# Altium footprint library DX_test_PcbLib1.PcbLib: 36 footprints (part 1 of 3)
Each footprint in its own frame and in the unit in brackets; x right, y up, seen from the top. Pads: shape width x height; smd on the part's side, far side on the other; paste and mask are expansions set on the pad; w line width, h text height; cw(c..) or ccw(c..) is an arc to the next point about the centre after c.
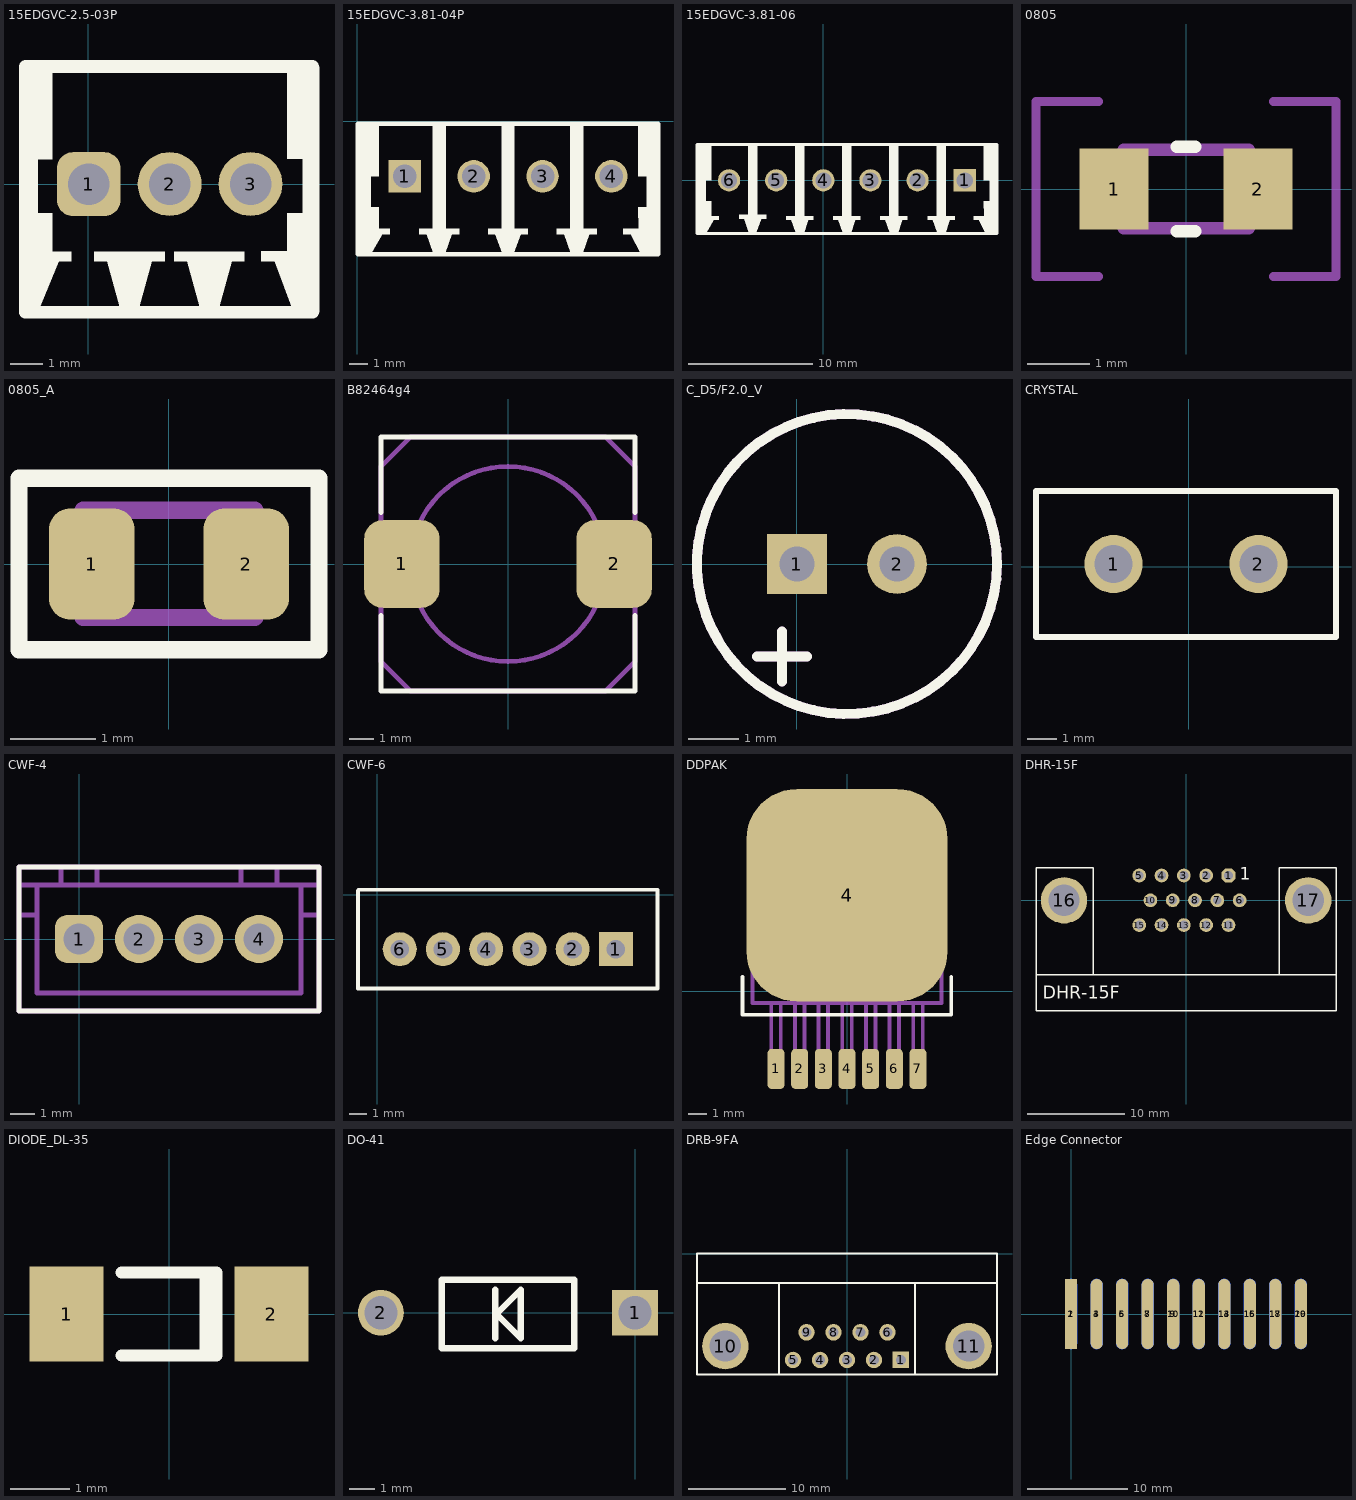
[diagram p0: the footprints below, top view; thin cyan lines are the x and y axes]

## 15EDGVC-2.5-03P [mm] "15EDGVC-2.5-03P"
pads (3):
  rrect50% 2x2 hole 1.3: 1(0.01,0)
  round 2 hole 1.3: 2(2.545,0) 3(5.08,0)
Top Overlay:
  region: 6.233,3.683 6.233,0.787 6.715,0.787 6.716,-0.914 6.233,-0.914 6.233,-2.108 5.415,-2.108 5.415,-2.413 5.84,-2.413 6.437,-4.013 7.224,-4.013 7.224,3.683
  region: -1.133,3.708 -1.133,0.784 -1.583,0.784 -1.583,-0.916 -1.133,-0.916 -1.133,-2.116 -0.533,-2.116 -0.533,-2.416 -0.933,-2.416 -1.59,-4.013 -2.174,-4.013 -2.174,3.708
  region: 3.49,-3.835 3.09,-2.413 2.69,-2.413 2.69,-2.113 4.89,-2.113 4.89,-2.413 4.49,-2.413 4.1,-3.835
  region: 0.976,-3.835 0.585,-2.413 0.185,-2.413 0.185,-2.113 2.385,-2.113 2.385,-2.413 1.985,-2.413 1.585,-3.835
  lines w0.4: -1.971,-4.016 7.021,-4.016 ; -1.971,3.683 7.021,3.683
3D body: height 10.2, standoff -3.4, extent -2.175,-4.214 7.225,3.886

## 15EDGVC-3.81-04P [mm] "15EDGVC-3.81-04P"
pads (4):
  rect 1.8x1.8 hole 1.3: 1(2.62,-3.06)
  round 1.8 hole 1.3: 2(6.43,-3.06) 3(10.24,-3.06) 4(14.05,-3.06)
Top Overlay:
  region: 4.23,-7.36 3.83,-6.26 3.43,-6.26 3.43,-5.96 5.63,-5.96 5.63,-6.26 5.23,-6.26 4.83,-7.36
  region: 8.03,-7.36 7.63,-6.26 7.23,-6.26 7.23,-5.96 9.43,-5.96 9.43,-6.26 9.03,-6.26 8.63,-7.36
  region: 11.83,-7.36 11.43,-6.26 11.03,-6.26 11.03,-5.96 13.23,-5.96 13.23,-6.26 12.83,-6.26 12.43,-7.36
  region: 4.18,-0.26 4.18,-5.96 4.88,-5.96 4.88,-0.26
  region: 7.98,-0.26 7.98,-5.96 8.68,-5.96 8.68,-0.26
  region: 11.78,-0.26 11.78,-5.96 12.48,-5.96 12.48,-0.26
  region: 1.18,-0.26 1.18,-3.06 0.73,-3.06 0.73,-4.76 1.18,-4.76 1.18,-5.96 1.78,-5.96 1.78,-6.26 1.38,-6.26 0.73,-7.36 0.155,-7.36 0.155,-0.26
  region: 15.53,-0.26 15.53,-3.06 16.005,-3.06 16.005,-4.76 15.53,-4.76 15.555,-5.96 14.705,-5.96 14.705,-6.26 15.13,-6.26 15.705,-7.36 16.505,-7.36 16.505,-0.26
  lines w0.254: 0.03,-7.36 0.03,-0.16 16.63,-0.16 16.63,-7.36 0.03,-7.36
3D body: height 9.2, standoff -3.4, extent -0.015,-7.4 16.615,-0.15

## 15EDGVC-3.81-06 [mm] "15EDGVC-3.81-06"
pads (6):
  rect 1.8x1.8 hole 1.3: 1(11.43,0)
  round 1.8 hole 1.3: 2(7.62,0) 3(3.81,0) 4(0,0) 5(-3.81,0) 6(-7.62,0)
Top Overlay:
  region: 9.19,2.8 9.19,-2.9 9.89,-2.9 9.89,2.8
  region: 9.24,-4.3 8.84,-3.2 8.44,-3.2 8.44,-2.9 10.64,-2.9 10.64,-3.2 10.24,-3.2 9.84,-4.3
  region: -2.2,-4.3 -2.6,-3.2 -3,-3.2 -3,-2.9 -0.8,-2.9 -0.8,-3.2 -1.2,-3.2 -1.6,-4.3
  region: 1.6,-4.3 1.2,-3.2 0.8,-3.2 0.8,-2.9 3,-2.9 3,-3.2 2.6,-3.2 2.2,-4.3
  region: 5.4,-4.3 5,-3.2 4.6,-3.2 4.6,-2.9 6.8,-2.9 6.8,-3.2 6.4,-3.2 6,-4.3
  region: -2.25,2.8 -2.25,-2.9 -1.55,-2.9 -1.55,2.8
  region: 1.55,2.8 1.55,-2.9 2.25,-2.9 2.25,2.8
  region: 5.35,2.8 5.35,-2.9 6.05,-2.9 6.05,2.8
  region: -9.06,2.8 -9.06,0 -9.51,0 -9.51,-1.7 -9.06,-1.7 -9.06,-2.9 -8.46,-2.9 -8.46,-3.2 -8.86,-3.2 -9.51,-4.3 -10.085,-4.3 -10.085,2.8
  region: 12.975,2.8 12.975,0 13.45,0 13.45,-1.7 12.975,-1.7 13,-2.9 12.15,-2.9 12.15,-3.2 12.575,-3.2 13.15,-4.3 13.95,-4.3 13.95,2.8
  region: -6.06,2.9 -6.06,-2.8 -5.36,-2.8 -5.36,2.9
  region: -6.01,-4.2 -6.41,-3.1 -6.81,-3.1 -6.81,-2.8 -4.61,-2.8 -4.61,-3.1 -5.01,-3.1 -5.41,-4.2
  lines w0.254: -10.21,-4.3 -10.21,2.9 ; -10.16,-4.3 14.04,-4.3 14.04,2.9 -10.16,2.9
3D body: height 9.2, standoff -3.4, extent -10.22,-4.242 14.03,3.008

## 0805 [mm]
pads (2):
  rect 1.1x1.3 smd: 1(-1.15,0) 2(1.15,0)
Top Overlay:
  lines w0.2: -0.15,-0.675 0.15,-0.675 ; -0.15,0.675 0.15,0.675
Mechanical 1:
  lines w0.2: -1,-0.625 -1,0.627 1,0.627 1,-0.625 -1,-0.625
Mechanical 2:
  lines w0.15: -1.4,-1.4 -2.4,-1.4 -2.4,1.4 -1.4,1.4 ; 1.4,-1.4 2.4,-1.4 2.4,1.4 1.4,1.4
3D body: height 0.47, standoff 0, extent -1,-0.625 1,0.627

## 0805_A [mm]
pads (2):
  rrect50% 1x1.3 smd: 1(-0.9,0) 2(0.9,0)
Top Overlay:
  lines w0.2: -1.75,-1 -1.75,1 1.75,1 1.75,-1 -1.75,-1
Mechanical 1:
  lines w0.2: -1,-0.625 -1,0.627 1,0.627 1,-0.625 -1,-0.625
3D body: height 0.47, standoff 0, extent -1,-0.625 1,0.627

## B82464g4 [mm]
height 4.8
pads (2):
  rrect50% 3.1x3.6 smd: 1(-4.35,0) 2(4.35,0)
Top Overlay:
  lines w0.2: -5.2,-2.1 -5.2,-5.2 5.2,-5.2 5.2,-2.1 ; -5.2,2.1 -5.2,5.2 5.2,5.2 5.2,2.1
Mechanical 1:
  circle w0.2: c0,0 r4
  lines w0.2: -5.2,-4 -5.2,4 -4,5.2 4,5.2 5.2,4 5.2,-4 4,-5.2 -4,-5.2 -5.2,-4
3D body: height 4.81, standoff 0, extent -5.2,-5.2 5.2,5.2

## C_D5/F2.0_V [mm]
pads (2):
  rect 1.2x1.2 hole 0.7: 1(0,0)
  round 1.2 hole 0.7: 2(2,0)
Top Overlay:
  circle w0.2: c1,0 r3
  lines w0.2: -0.8,-1.85 0.2,-1.85 ; -0.3,-2.35 -0.3,-1.35
Mechanical 1:
  circle w0.2: c1,0 r3
  lines w0.2: -0.8,-1.85 0.2,-1.85 ; -0.3,-2.35 -0.3,-1.35
3D body: height 11.28, standoff -3.52, extent -1.525,-2.551 3.525,2.5

## CRYSTAL [mm] "Quarz_Crystal"
pads (2):
  round 2.01 hole 1.31: 1(-2.591,0.102) 2(2.409,0.102)
Top Overlay:
  lines w0.2: 5.084,2.622 5.084,-2.418 -5.266,-2.418 -5.266,2.624 5.084,2.624
3D body: height 13.46, standoff -2, extent -5.61,-2.285 5.563,2.387

## CWF-4 [mm]
pads (4):
  rrect50% 2x2 hole 1.3: 1(0,0)
  round 2 hole 1.3: 2(2.5,0) 3(5,0) 4(7.5,0)
Top Overlay:
  lines w0.2: -2.5,-3 -2.5,3 10,3 10,-3 -2.5,-3
Mechanical 1:
  lines w0.2: -2.5,1 -1.75,1 ; -2.5,2.25 -1.75,2.25 ; -0.75,2.25 -0.75,3 ; 0.75,2.25 0.75,3 ; 6.75,2.25 6.75,3 ; 8.25,2.25 8.25,3 ; 9.25,1 10,1 ; 10,2.25 9.25,2.25 ; -1.75,2.25 -1.75,-2.25 9.25,-2.25 9.25,2.25 ; -1.75,2.25 9.25,2.25 ; -2.5,-3 -2.5,0 -2.5,3 10,3 10,-3 -2.5,-3 ; -0.25,-0.25 -0.25,0.25 0.25,0.25 0.25,-0.25 -0.25,-0.25 ; 2.25,-0.25 2.25,0.25 2.75,0.25 2.75,-0.25 2.25,-0.25 ; 4.75,-0.25 4.75,0.25 5.25,0.25 5.25,-0.25 4.75,-0.25 ; 7.25,-0.25 7.25,0.25 7.75,0.25 7.75,-0.25 7.25,-0.25
3D body: height 7, standoff -3.5, extent -2.4,-3.55 10,2.2

## CWF-6 [mm] "Connector CWF-6"
pads (6):
  rect 2x2 hole 1.1: 1(14.01,-3.2)
  round 2 hole 1.1: 2(11.47,-3.2) 3(8.93,-3.2) 4(6.39,-3.2) 5(3.85,-3.2) 6(1.31,-3.2)
Top Overlay:
  lines w0.203: -1.143,0.3 16.485,0.3
  lines w0.25: -1.14,0.229 -1.14,-5.51 16.459,-5.51 16.459,0.279
3D body: height 7, standoff -3.5, extent -1.1,-5.475 16.4,0.275

## DDPAK [mm]
pads (8):
  rrect50% 0.91x2.16 smd: 1(-3.81,-4.16) 2(-2.54,-4.16) 3(-1.27,-4.16) 4(0,-4.16) 5(1.27,-4.16) 6(2.54,-4.16) 7(3.81,-4.16)
  rrect50% 10.8x11.41 smd: 4(0,5.16)
Top Overlay:
  lines w0.2: -5.61,0.782 -5.61,-1.25 5.59,-1.25 5.59,0.77
Mechanical 1:
  circle w0.2: c-3.825,0.7 r0.5
  lines w0.2: -4.064,-0.625 -4.064,-5.08 -3.556,-5.08 -3.556,-0.625 ; -2.794,-0.625 -2.794,-5.08 -2.286,-5.08 -2.286,-0.625 ; -1.524,-0.625 -1.524,-5.08 -1.016,-5.08 -1.016,-0.625 ; -0.254,-0.625 -0.254,-5.08 0.254,-5.08 0.254,-0.625 ; 1.016,-0.625 1.016,-5.08 1.524,-5.08 1.524,-0.625 ; 2.286,-0.625 2.286,-5.08 2.794,-5.08 2.794,-0.625 ; 3.556,-0.625 3.556,-5.08 4.064,-5.08 4.064,-0.625 ; -5.075,8.025 -5.075,8.625 -3.45,9.275 0,9.275 3.45,9.275 5.075,8.625 5.075,8.025 ; -5.075,8.025 5.075,8.025 ; -5.075,8.025 -5.075,-0.625 5.075,-0.625 5.075,8.025
3D body: height 4.78, standoff -0.02, extent -5,-5.142 5,10.528

## DHR-15F [mm] "DHR-15F"
pads (17):
  oct 1.408x1.408 hole 0.9: 1(4.329,2.54)
  round 1.408 hole 0.9: 2(2.043,2.54) 3(-0.243,2.54) 4(-2.529,2.54) 5(-4.815,2.54) 6(5.472,0) 7(3.186,0) 8(0.9,0) 9(-1.386,0) 10(-3.672,0) 11(4.329,-2.54) 12(2.043,-2.54) 13(-0.243,-2.54) 14(-2.529,-2.54) 15(-4.815,-2.54)
  round 4.76 hole 3.2: 16(-12.522,0) 17(12.497,0)
Top Overlay:
  lines w0.152: -15.392,-7.645 -15.392,3.353 -9.525,3.353 -9.525,-7.62 ; 9.525,-7.62 9.525,3.353 15.342,3.353 15.342,-11.294 -15.392,-11.294 -15.392,-7.62 15.316,-7.62
  text "1" at 5.48,2.095 h1.27
  text "DHR-15F" at -14.725,-10.075 h1.3
3D body: height 12.27, standoff -3.77, extent -15.405,-17.678 15.405,3.422

## DIODE_DL-35 [mm] "Metal Electrode Face (MELF) Diode; Body 3.5 x 1.5 mm (LxDia)"
height 1.5
pads (2):
  rect 1.25x1.6 smd: 1(-1.725,0) 2(1.725,0)
Top Overlay:
  lines w0.2: -0.8,-0.7 0.8,-0.7 0.8,0.7 -0.8,0.7 ; 0.61,-0.7 0.61,0.7
3D body: height 1.6, standoff 0, extent -1.82,-1 1.88,0.6

## DO-41 [mm]
height 11.5
pads (2):
  rect 1.8x1.8 hole 1.3: 1(0,0)
  round 1.8 hole 1.3: 2(-10,0)
Top Overlay:
  lines w0.254: -5.5,-1 -5.5,0.9 ; -7.6,-1.4 -7.6,1.3 -2.4,1.3 -2.4,-1.4 -7.6,-1.4 ; -5.5,-0.1 -4.5,0.9 -4.5,-1 -5.4,-0.1 -5.5,-0.1
3D body: height 3.37, standoff -2.86, extent -10.51,-1.43 0.51,1.3

## DRB-9FA [mm] "DRB-9FA"
pads (11):
  rect 1.69x1.69 hole 1: 1(5.54,-10.92)
  round 1.69 hole 1: 2(2.77,-10.92) 3(0,-10.92) 4(-2.77,-10.92) 5(-5.54,-10.92) 6(4.155,-8.08) 7(1.385,-8.08) 8(-1.385,-8.08) 9(-4.155,-8.08)
  round 4.76 hole 3.2: 10(-12.495,-9.5) 11(12.495,-9.5)
Top Overlay:
  lines w0.2: -15.4,-3 15.4,-3 ; -7,-12.4 -7,-3 ; 7,-12.4 7,-3 ; -15.4,-12.4 -15.4,0 15.4,0 15.4,-12.4 -15.4,-12.4
3D body: height 12.77, standoff -4.1, extent -15.367,-12.37 15.443,5.93

## Edge Connector [mm]
pads (20):
  rect 1.2x7 smd: 1(0,0)
  oval 1.2x7 smd far side: 2(0,0) 4(2.54,0) 6(5.08,0) 8(7.62,0) 10(10.16,0) 12(12.7,0) 14(15.24,0) 16(17.78,0) 18(20.32,0) 20(22.86,0)
  oval 1.2x7 smd: 3(2.54,0) 5(5.08,0) 7(7.62,0) 9(10.16,0) 11(12.7,0) 13(15.24,0) 15(17.78,0) 17(20.32,0) 19(22.86,0)